# Altium schematic symbol library IPB081N06L3 G.SchLib: 1 symbol
Pins are listed as number, name and electrical type; pins without a type are passive.

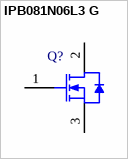
[diagram p0: symbol IPB081N06L3 G]

## IPB081N06L3 G
designator Q?
N-Channel OptiMOS 3 Power-Transistor, 60 V VDS, 50 A ID, -55 to 175 degC, PG-TO-263-3-2, Reel, Green; Manufacturer: Infineon; PartNumber: IPB081N06L3 G; Green: TRUE; ID (max): 50 A; IDpuls (max): 200 A; Polarity: N; Ptot (max): 79 W; QG: 22 nC; RDS (on) (max): 8.1 mOhm; RDS (on) (max) (@4.5V): 14 mOhm; Rth: 1.9 K/W; RthJA (max): 62 K/W; VDS (max): 60 V; VGS(th) (max): 2.2 V; VGS(th) (min): 1.2 V; DatasheetVersion: Rev. 2.23; PackageVersion: Rev. 01, 08/2007; PackageReference: PG-TO-263-3-2; PackageDescription: 3-Pin Plastic (Green) Transistor Single Outline Package, 10.06 x 8.98 mm Body, 2.54 mm Pitch; Supplier 1: Digi-Key; Supplier Part Number 1: IPB081N06L3 GTR-ND; Supplier 2: Digi-Key; Supplier Part Number 2: IPB081N06L3 GCT-ND; Supplier 3: Digi-Key; Supplier Part Number 3: IPB081N06L3 GDKR-ND; Supplier 4: Farnell; Supplier Part Number 4: 1775548; Supplier 5: Newark; Supplier Part Number 5: 60R2670; Supplier 6: Mouser; Supplier Part Number 6: 726-IPB081N06L3G; Halogen-free: TRUE; Packing: Reel; RthJC (max): 1.9 K/W; Mounting Technology: Surface Mount; ComponentLink1Description: Manufacturer URL; ComponentLink1URL: http://www.infineon.com/; ComponentLink2Description: Datasheet; ComponentLink2URL: http://www.infineon.com/dgdl/IPP_B084N06L3_Rev2.23.pdf?folderId=db3a304313b8b5a60113cee8763b02d7&fileId=db3a30431b3e89eb011b4592273f7db2; ComponentLink3Description: Package Specification; ComponentLink3URL: http://www.infineon.com/dgdl/IPB026N06N_Rev2.2.pdf?folderId=db3a304313b8b5a60113cee8763b02d7&fileId=db3a3043372d5cc8013754c7b2a74f7c
footprint INF-PG-TO-263-3-2_A_N (DPAK, 3-Leads, Body 10.06x8.98mm, Pitch 2.54mm, IPC Medium Density)
footprint INF-PG-TO-263-3-2_A_L (DPAK, 3-Leads, Body 10.06x8.98mm, Pitch 2.54mm, IPC High Density)
footprint INF-PG-TO-263-3-2_A_M (DPAK, 3-Leads, Body 10.06x8.98mm, Pitch 2.54mm, IPC Low Density)
pins: 1 GATE, 2 DRAIN, 3 SOURCE